# Altium schematic symbol library H7_morpho.SchLib: 2 symbols
Pins are listed as number, name and electrical type; pins without a type are passive.

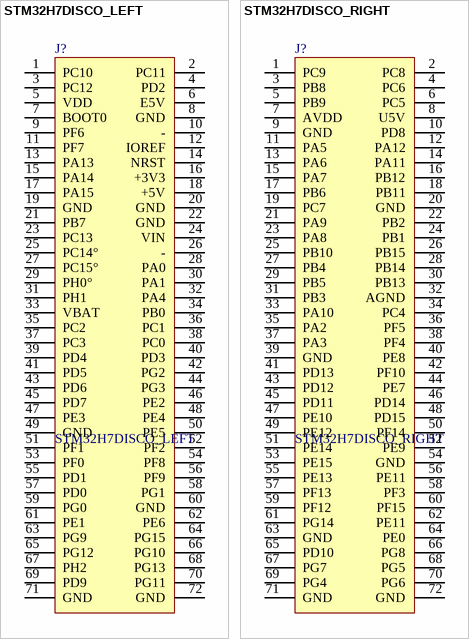
[diagram p0: symbols STM32H7DISCO_LEFT to STM32H7DISCO_RIGHT]

## STM32H7DISCO_LEFT
designator J?
LatestRevisionDate: 17-Jul-2002; LatestRevisionNote: Re-released for DXP Platform.; Publisher: Altium Limited
signal-integrity model Connector
footprint HEADER24X2 (Connector; Header; 24x2 Position)
footprint HEADER24X2H (Connector; Header; 24x2 Position; Right Angle)
footprint HEADER36X2 (Footprint not found)
pins: 1 PC10, 2 PC11, 3 PC12, 4 PD2, 5 VDD, 6 E5V, 7 BOOT0, 8 GND, 9 PF6, 10 -, 11 PF7, 12 IOREF, 13 PA13, 14 NRST, 15 PA14, 16 +3V3, 17 PA15, 18 +5V, 19 GND, 20 GND, 21 PB7, 22 GND, 23 PC13, 24 VIN, 25 PC14°, 26 -, 27 PC15°, 28 PA0, 29 PH0°, 30 PA1, 31 PH1, 32 PA4, 33 VBAT, 34 PB0, 35 PC2, 36 PC1, 37 PC3, 38 PC0, 39 PD4, 40 PD3, 41 PD5, 42 PG2, 43 PD6, 44 PG3, 45 PD7, 46 PE2, 47 PE3, 48 PE4, 49 GND, 50 PE5, 51 PF1, 52 PF2, 53 PF0, 54 PF8, 55 PD1, 56 PF9, 57 PD0, 58 PG1, 59 PG0, 60 GND, 61 PE1, 62 PE6, 63 PG9, 64 PG15, 65 PG12, 66 PG10, 67 PH2, 68 PG13, 69 PD9, 70 PG11, 71 GND, 72 GND

## STM32H7DISCO_RIGHT
designator J?
LatestRevisionDate: 17-Jul-2002; LatestRevisionNote: Re-released for DXP Platform.; Publisher: Altium Limited
signal-integrity model Connector
footprint HEADER24X2 (Connector; Header; 24x2 Position)
footprint HEADER24X2H (Connector; Header; 24x2 Position; Right Angle)
footprint HEADER36X2 (Footprint not found)
pins: 1 PC9, 2 PC8, 3 PB8, 4 PC6, 5 PB9, 6 PC5, 7 AVDD, 8 U5V, 9 GND, 10 PD8, 11 PA5, 12 PA12, 13 PA6, 14 PA11, 15 PA7, 16 PB12, 17 PB6, 18 PB11, 19 PC7, 20 GND, 21 PA9, 22 PB2, 23 PA8, 24 PB1, 25 PB10, 26 PB15, 27 PB4, 28 PB14, 29 PB5, 30 PB13, 31 PB3, 32 AGND, 33 PA10, 34 PC4, 35 PA2, 36 PF5, 37 PA3, 38 PF4, 39 GND, 40 PE8, 41 PD13, 42 PF10, 43 PD12, 44 PE7, 45 PD11, 46 PD14, 47 PE10, 48 PD15, 49 PE12, 50 PF14, 51 PE14, 52 PE9, 53 PE15, 54 GND, 55 PE13, 56 PE11, 57 PF13, 58 PF3, 59 PF12, 60 PF15, 61 PG14, 62 PE11, 63 GND, 64 PE0, 65 PD10, 66 PG8, 67 PG7, 68 PG5, 69 PG4, 70 PG6, 71 GND, 72 GND